# Altium footprint library SS24.PcbLib: 2 footprints
Each footprint in its own frame and in the unit in brackets; x right, y up, seen from the top. Pads: shape width x height; smd on the part's side, far side on the other; paste and mask are expansions set on the pad; w line width, h text height; cw(c..) or ccw(c..) is an arc to the next point about the centre after c.
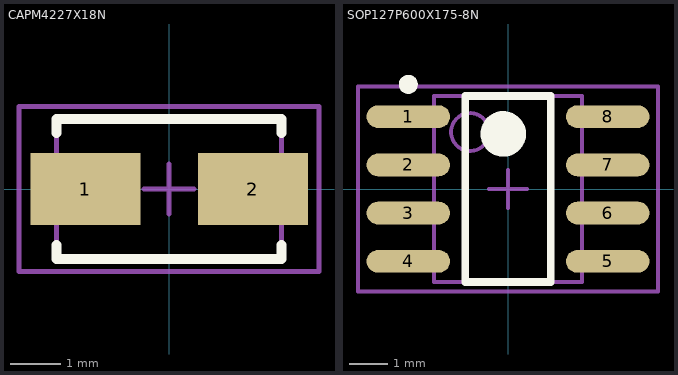
[diagram p0: the footprints below, top view; thin cyan lines are the x and y axes]

## CAPM4227X18N [mm] "Molded Capacitor, 2-Leads, Body 4.2x2.7mm, IPC Medium Density"
height 1.8
pads (2):
  rect 2.2x1.45 smd: 1(-1.675,0) 2(1.675,0)
Top Overlay:
  lines w0.2: -2.25,-1.125 -2.25,-1.4 2.25,-1.4 2.25,-1.125 ; -2.25,1.125 -2.25,1.4 2.25,1.4 2.25,1.125
Mechanical 13:
  lines w0.1: -2.25,-1.395 2.25,-1.395 2.25,1.395 -2.25,1.395 -2.25,-1.395
Mechanical 15:
  lines w0.1: -0.5,0 0.5,0 ; 0,-0.5 0,0.5 ; -3,-1.65 3,-1.65 3,1.65 -3,1.65 -3,-1.65
3D body: height 1.8, standoff 0, extent -2.25,-1.395 2.25,1.395

## SOP127P600X175-8N [mm] "SOP, 8-Leads, Body 4.9x3.9mm (max), Pitch 1.27mm, IPC Medium Density"
height 1.75
pads (8):
  oval 2.2x0.6 smd: 1(-2.625,1.905) 2(-2.625,0.635) 3(-2.625,-0.635) 4(-2.625,-1.905) 5(2.625,-1.905) 6(2.625,-0.635) 7(2.625,0.635) 8(2.625,1.905)
Top Overlay:
  circle w0.25: c-2.625,2.755 r0.125
  circle w0.6: c-0.125,1.45 r0.3
  lines w0.2: -1.125,-2.45 -1.125,2.45 1.125,2.45 1.125,-2.45 -1.125,-2.45
Mechanical 13:
  circle w0.1: c-1,1.5 r0.5
  lines w0.1: -1.95,-2.45 -1.95,2.45 1.95,2.45 1.95,-2.45 -1.95,-2.45
Mechanical 15:
  lines w0.1: -0.5,0 0.5,0 ; 0,-0.5 0,0.5 ; -3.95,-2.7 -3.95,2.7 3.95,2.7 3.95,-2.7 -3.95,-2.7
3D body: height 1.75, standoff 0.1, extent -1.95,-2.45 1.95,2.45